# Altium footprint library PcbLib.PcbLib: 3 footprints
Each footprint in its own frame and in the unit in brackets; x right, y up, seen from the top. Pads: shape width x height; smd on the part's side, far side on the other; paste and mask are expansions set on the pad; w line width, h text height; cw(c..) or ccw(c..) is an arc to the next point about the centre after c.
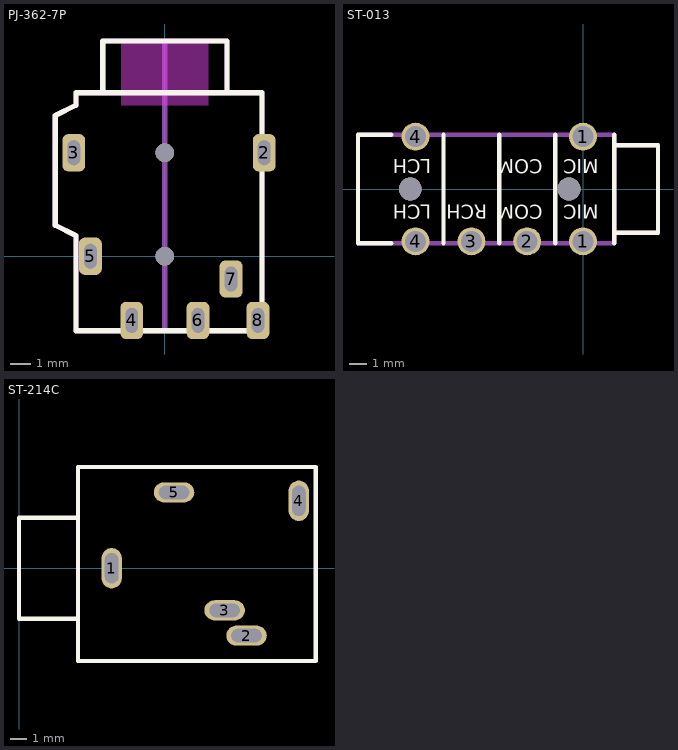
[diagram p0: the footprints below, top view; thin cyan lines are the x and y axes]

## PJ-362-7P [mm] "3.5mm 7 Pin Stereo Audio socket for 4 poles Through hole right Angle"
height 6
pads (7):
  rrect50% 1.1x1.8 hole 0.6 slot 1.2 at 90 deg: 2(4.8,5) 3(-4.4,5) 4(-1.6,-3.1) 5(-3.6,0) 6(1.6,-3.1) 7(3.2,-1.1) 8(4.5,-3.1)
via 0,0 diameter 0.9 hole 0.9
via 0,5 diameter 0.9 hole 0.9
Top Overlay:
  lines w0.254: -3,7.9 -3,10.4 3,10.4 3,7.9 ; -5.3,1.5 -4.3,1 -4.3,-3.6 4.7,-3.6 4.7,7.9 -4.3,7.9 -4.3,7.3 -5.3,6.8 -5.3,1.5
Keep-Out Layer:
  board cut-out: -2.1,10.5 2.1,10.5 2.1,7.3 -2.1,7.3
  board cut-out: -2.1,10.5 2.1,10.5 2.1,7.3 -2.1,7.3
Mechanical 13:
  lines w0.254: -3,7.9 -3,10.4 3,10.4 3,7.9 ; 0,-3.6 0,10.4 ; -5.3,1.5 -4.3,1 -4.3,-3.6 4.7,-3.6 4.7,7.9 -4.3,7.9 -4.3,7.3 -5.3,6.8 -5.3,1.5
3D body: height 4, standoff 0, extent -5.3,-3.6 4.7,7.9
3D body: height 5, standoff -1, extent -3,7.5 3,10.5

## ST-013 [mm]
height 5
pads (6):
  round 1.6 hole 1.2: 1(0,-3) 1(0,3) 2(-3.2,-3) 3(-6.4,-3) 4(-9.6,-3) 4(-9.6,3)
via -0.8,0 diameter 1.3 hole 1.3
via -9.9,0 diameter 1.3 hole 1.3
Top Overlay:
  lines w0.254: -11,-3.1 -12.9,-3.1 -12.9,3.1 -11,3.1 ; -8,-3.1 -8,3.1 ; -4.8,-3.1 -4.8,3.1 ; -1.6,-3.1 -1.6,3.1 ; 1.8,-3.1 1.8,3.1 ; 1.8,-2.5 4.3,-2.5 4.3,2.5 1.8,2.5
  text "MIC" at 0.9,-0.9 h0.8
  text "MIC" at 0.9,1.7 h0.8
  text "COM" at -2.3,1.7 h0.8
  text "COM" at -2.3,-0.9 h0.8
  text "LCH" at -8.7,-0.9 h0.8
  text "LCH" at -8.7,1.7 h0.8
  text "RCH" at -5.5,-0.9 h0.8
Mechanical 13:
  lines w0.254: 1.8,-2.5 4.3,-2.5 4.3,2.5 1.8,2.5 ; -12.9,-3.1 -12.9,3.1 1.8,3.1 1.8,-3.1 -12.9,-3.1

## ST-214C [mm]
pads (5):
  oval 1.2x2.4 hole 0.8 slot 1.8 at 90 deg: 1(5.5,0) 4(16.6,4)
  oval 2.4x1.2 hole 0.8 slot 1.8 at 0 deg: 2(13.5,-4) 3(12.2,-2.5) 5(9.2,4.5)
Top Overlay:
  lines w0.254: 3.5,-3 0,-3 0,3 3.5,3 ; 3.5,-5.5 3.5,0 3.5,6 17.6,6 17.6,-5.5 3.5,-5.5